# EAGLE library part A3950 (library A3950)
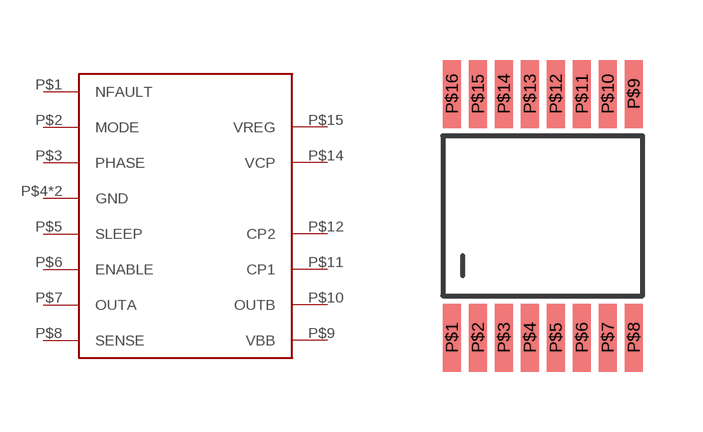
[diagram p0: symbol with the pads of 16TSSOP; footprint 16TSSOP]

Designator prefix -

## A3950  [16TSSOP]
P$1  NFAULT
P$2  MODE
P$3  PHASE
P$4  GND
P$5  SLEEP
P$6  ENABLE
P$7  OUTA
P$8  SENSE
P$9  VBB
P$10  OUTB
P$11  CP1
P$12  CP2
P$13  GND
P$14  VCP
P$15  VREG

## Footprint 16TSSOP (pad centres in mm)
smd 0.45 x 1.7: P$1 -2.275,-3.05; P$2 -1.625,-3.05; P$3 -0.975,-3.05; P$4 -0.325,-3.05; P$5 0.325,-3.05; P$6 0.975,-3.05; P$7 1.625,-3.05; P$8 2.275,-3.05; P$9 2.275,3.05; P$10 1.625,3.05; P$11 0.975,3.05; P$12 0.325,3.05; P$13 -0.325,3.05; P$14 -0.975,3.05; P$15 -1.625,3.05; P$16 -2.275,3.05